# EAGLE library part KSZ8081MNXIA-TR (library my-Microchip-Technology)
Ethernet ICs 10/100 BASE-TX Physical Layer Transceiver
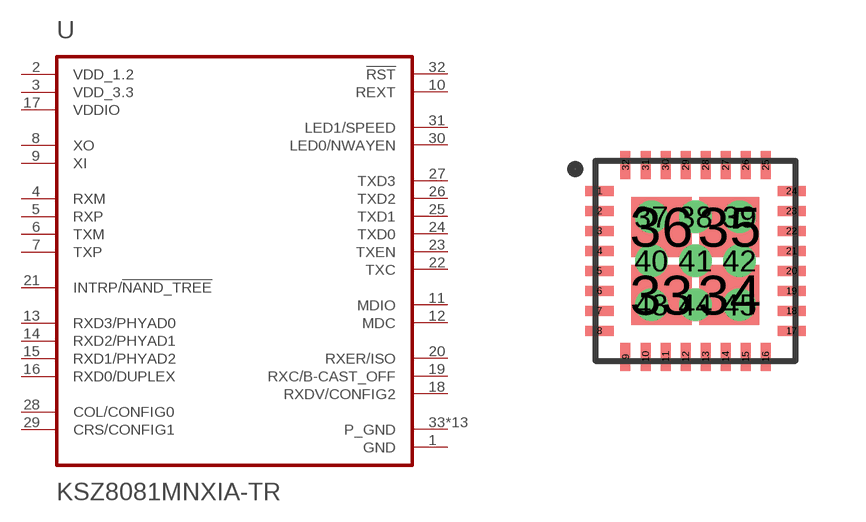
[diagram p4: symbol with the pads of QFN-32(5X5MM); footprint QFN-32(5X5MM)]

Designator prefix -

## KSZ8081MNXIA-TR  [QFN-32(5X5MM)]
1  GND
2  VDD_1.2
3  VDD_3.3
4  RXM
5  RXP
6  TXM
7  TXP
8  XO
9  XI
10  REXT
11  MDIO
12  MDC
13  RXD3/PHYAD0
14  RXD2/PHYAD1
15  RXD1/PHYAD2
16  RXD0/DUPLEX
17  VDDIO
18  RXDV/CONFIG2
19  RXC/B-CAST_OFF
20  RXER/ISO
21  INTRP/!NAND_TREE
22  TXC
23  TXEN
24  TXD0
25  TXD1
26  TXD2
27  TXD3
28  COL/CONFIG0
29  CRS/CONFIG1
30  LED0/NWAYEN
31  LED1/SPEED
32  !RST
33  P_GND
34  P_GND
35  P_GND
36  P_GND
37  P_GND
38  P_GND
39  P_GND
40  P_GND
41  P_GND
42  P_GND
43  P_GND
44  P_GND
45  P_GND

## Footprint QFN-32(5X5MM) (pad centres in mm)
smd 0.7 x 0.25: 1 -2.4,1.75; 2 -2.4,1.25; 3 -2.4,0.75; 4 -2.4,0.25; 5 -2.4,-0.25; 6 -2.4,-0.75; 7 -2.4,-1.25; 8 -2.4,-1.75; 17 2.4,-1.75; 18 2.4,-1.25; 19 2.4,-0.75; 20 2.4,-0.25; 21 2.4,0.25; 22 2.4,0.75; 23 2.4,1.25; 24 2.4,1.75
smd 0.25 x 0.7: 9 -1.75,-2.4; 10 -1.25,-2.4; 11 -0.75,-2.4; 12 -0.25,-2.4; 13 0.25,-2.4; 14 0.75,-2.4; 15 1.25,-2.4; 16 1.75,-2.4; 25 1.75,2.4; 26 1.25,2.4; 27 0.75,2.4; 28 0.25,2.4; 29 -0.25,2.4; 30 -0.75,2.4; 31 -1.25,2.4; 32 -1.75,2.4
smd 1.5 x 1.5: 33 -0.85,-0.85; 34 0.85,-0.85; 35 0.85,0.85; 36 -0.85,0.85
drill 0.3: 37 -1.1,1.1; 38 0,1.1; 39 1.1,1.1; 40 -1.1,0; 41 0,0; 42 1.1,0; 43 -1.1,-1.1; 44 0,-1.1; 45 1.1,-1.1